# Altium footprint library F83-A-3.5-2x4.PcbLib: 1 footprints
Each footprint in its own frame and in the unit in brackets; x right, y up, seen from the top. Pads: shape width x height; smd on the part's side, far side on the other; paste and mask are expansions set on the pad; w line width, h text height; cw(c..) or ccw(c..) is an arc to the next point about the centre after c.
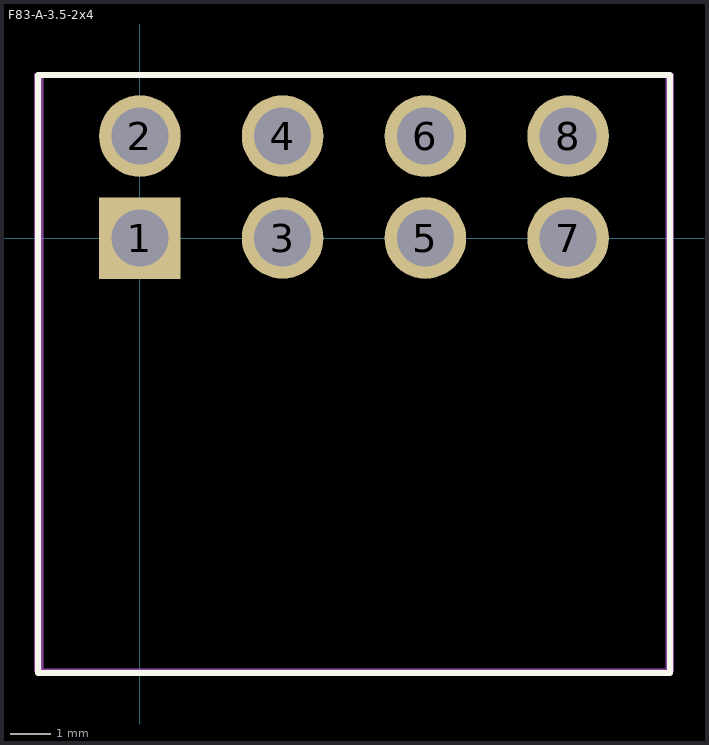
[diagram p0: the footprint, top view; thin cyan lines are the x and y axes]

## F83-A-3.5-2x4 [mm] "Pitch 3.5mm Body 22.4X14.2mm  High13.5mm"
height 13.5
pads (8):
  rect 2x2 hole 1.4: 1(0,0)
  round 2 hole 1.4: 2(0,2.5) 3(3.5,0) 4(3.5,2.5) 5(7,0) 6(7,2.5) 7(10.5,0) 8(10.5,2.5)
Top Overlay:
  lines w0.152: -2.5,-10.668 -2.5,4 13,4 13,-10.668 -2.5,-10.668
Mechanical 13:
  lines w0.152: -2.437,-10.643 -2.437,4 12.963,4 12.963,-10.643 -2.437,-10.643
Mechanical 15:
  lines w0.1: -2.552,-10.6 -2.552,4 13.052,4 13.052,-10.6 -2.552,-10.6
3D body: height 10.75, standoff -3.25, extent -2.421,-10.865 12.878,3.335